# Altium schematic symbol library rol-0505s.SchLib: 1 symbol
Pins are listed as number, name and electrical type; pins without a type are passive.

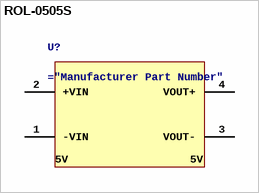
[diagram p0: symbol ROL-0505S]

## ROL-0505S
designator U?
5V to 5V isolated power supply module
pins: 1 -VIN, 2 +VIN, 3 VOUT-, 4 VOUT+
text: 5V